# Altium schematic symbol library 3400 Sch Lib.SchLib: 2 symbols
Pins are listed as number, name and electrical type; pins without a type are passive.

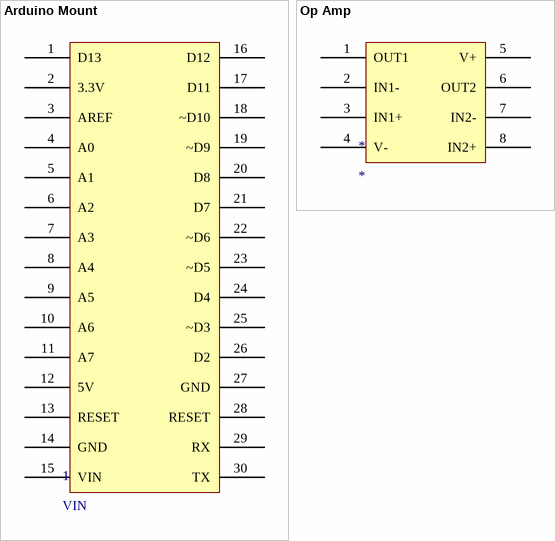
[diagram p0: symbols Arduino Mount to Op Amp]

## Arduino Mount
designator 1, comment VIN
footprint Arduino Nano
pins: 1 D13, 2 3.3V, 3 AREF, 4 A0, 5 A1, 6 A2, 7 A3, 8 A4, 9 A5, 10 A6, 11 A7, 12 5V, 13 RESET, 14 GND, 15 VIN, 16 D12, 17 D11, 18 ~D10, 19 ~D9, 20 D8, 21 D7, 22 ~D6, 23 ~D5, 24 D4, 25 ~D3, 26 D2, 27 GND, 28 RESET, 29 RX, 30 TX

## Op Amp
designator *
footprint Op Amp (.025 SQ Post Terminal Strip Assembly, 1x4 Pins, Vertical, 2.54mm Pitch, Male)
pins: 1 OUT1, 2 IN1-, 3 IN1+, 4 V-, 5 V+, 6 OUT2, 7 IN2-, 8 IN2+